# Altium integrated library relay.IntLib: 425 symbols (part 4 of 4)
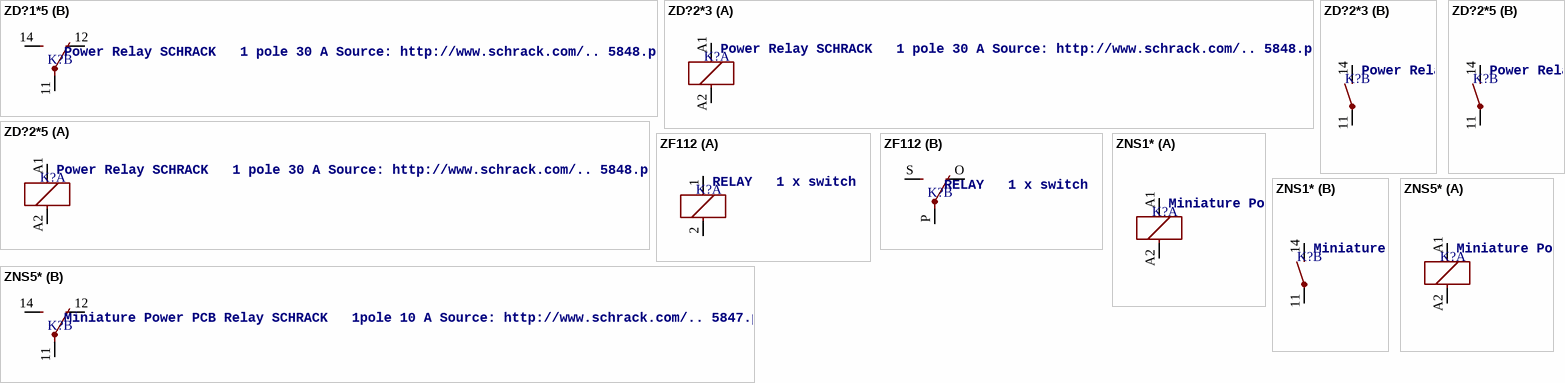
[diagram p41: symbols ZD?1*5 to ZNS5*]

## ZD?1*5
designator K?, comment Power Relay SCHRACK   1 pole 30 A Source: http://www.schrack.com/.. 5848.pdf
OC_FARNELL: unknown; OC_NEWARK: unknown
footprint ZD1F
part A pins: A1 1, A2 2
part B pins: 11 P, 12 O, 14 S

## ZD?2*3
designator K?, comment Power Relay SCHRACK   1 pole 30 A Source: http://www.schrack.com/.. 5848.pdf
OC_FARNELL: unknown; OC_NEWARK: unknown
footprint ZD2
part A pins: A1 1, A2 2
part B pins: 11 P, 14 S

## ZD?2*5
designator K?, comment Power Relay SCHRACK   1 pole 30 A Source: http://www.schrack.com/.. 5848.pdf
OC_FARNELL: unknown; OC_NEWARK: unknown
footprint ZD2F
part A pins: A1 1, A2 2
part B pins: 11 P, 14 S

## ZF112
designator K?, comment RELAY   1 x switch
OC_FARNELL: unknown; OC_NEWARK: unknown
footprint ZF112
part A pins: 1, 2
part B pins: O, P, S

## ZNS1*
designator K?, comment Miniature Power PCB Relay SCHRACK   1pole 10 A Source: http://www.schrack.com/.. 5847.pdf
OC_FARNELL: unknown; OC_NEWARK: unknown
footprint ZN1
part A pins: A1 1, A2 2
part B pins: 11 P, 14 S

## ZNS5*
designator K?, comment Miniature Power PCB Relay SCHRACK   1pole 10 A Source: http://www.schrack.com/.. 5847.pdf
OC_FARNELL: unknown; OC_NEWARK: unknown
footprint ZN5
part A pins: A1 1, A2 2
part B pins: 11 P, 12 O, 14 S